# Altium schematic symbol library 10uF ±10% 50V X5R 1206.Schlib: 1 symbol
Pins are listed as number, name and electrical type; pins without a type are passive.

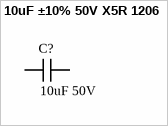
[diagram p0: symbol 10uF ±10% 50V X5R 1206]

## 10uF ±10% 50V X5R 1206
designator C?, comment value 10uF 50V  (hidden comment: Capacitor)
10uF ±10% 50V X5R 1206 Multilayer Ceramic Capacitors MLCC - SMD/SMT ROHS; ComponentLink1Description: LCSC - Samsung Electro-Mechanics CL31A106KBHNNNE; ComponentLink1URL: https://lcsc.com/product-detail/Multilayer-Ceramic-Capacitors-MLCC-SMD-SMT_Samsung-Electro-Mechanics-CL31A106KBHNNNE_C13585.html; JLCPCB Part Type: Basic; LCSC Part #: C13585
footprint CAP 1206_3216 - 1.2MM (Chip Capacitor, 2-Leads, Body 3.25x1.60mm, IPC Medium Density)
pins: 1, 2